# Altium schematic symbol library SN74AHCT139.SchLib: 1 symbol
Pins are listed as number, name and electrical type; pins without a type are passive.

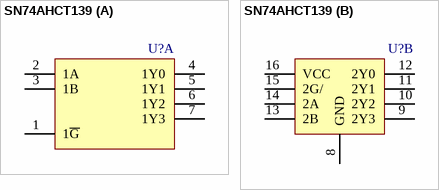
[diagram p0: symbol SN74AHCT139]

## SN74AHCT139
designator U?
part A pins: 1 1~{G}, 2 1A, 3 1B, 4 1Y0, 5 1Y1, 6 1Y2, 7 1Y3
part B pins: 8 GND, 9 2Y3, 10 2Y2, 11 2Y1, 12 2Y0, 13 2B, 14 2A, 15 2G/, 16 VCC